# Altium footprint library IC.PCBLIB: 73 footprints (part 2 of 5)
Each footprint in its own frame and in the unit in brackets; x right, y up, seen from the top. Pads: shape width x height; smd on the part's side, far side on the other; paste and mask are expansions set on the pad; w line width, h text height; cw(c..) or ccw(c..) is an arc to the next point about the centre after c.
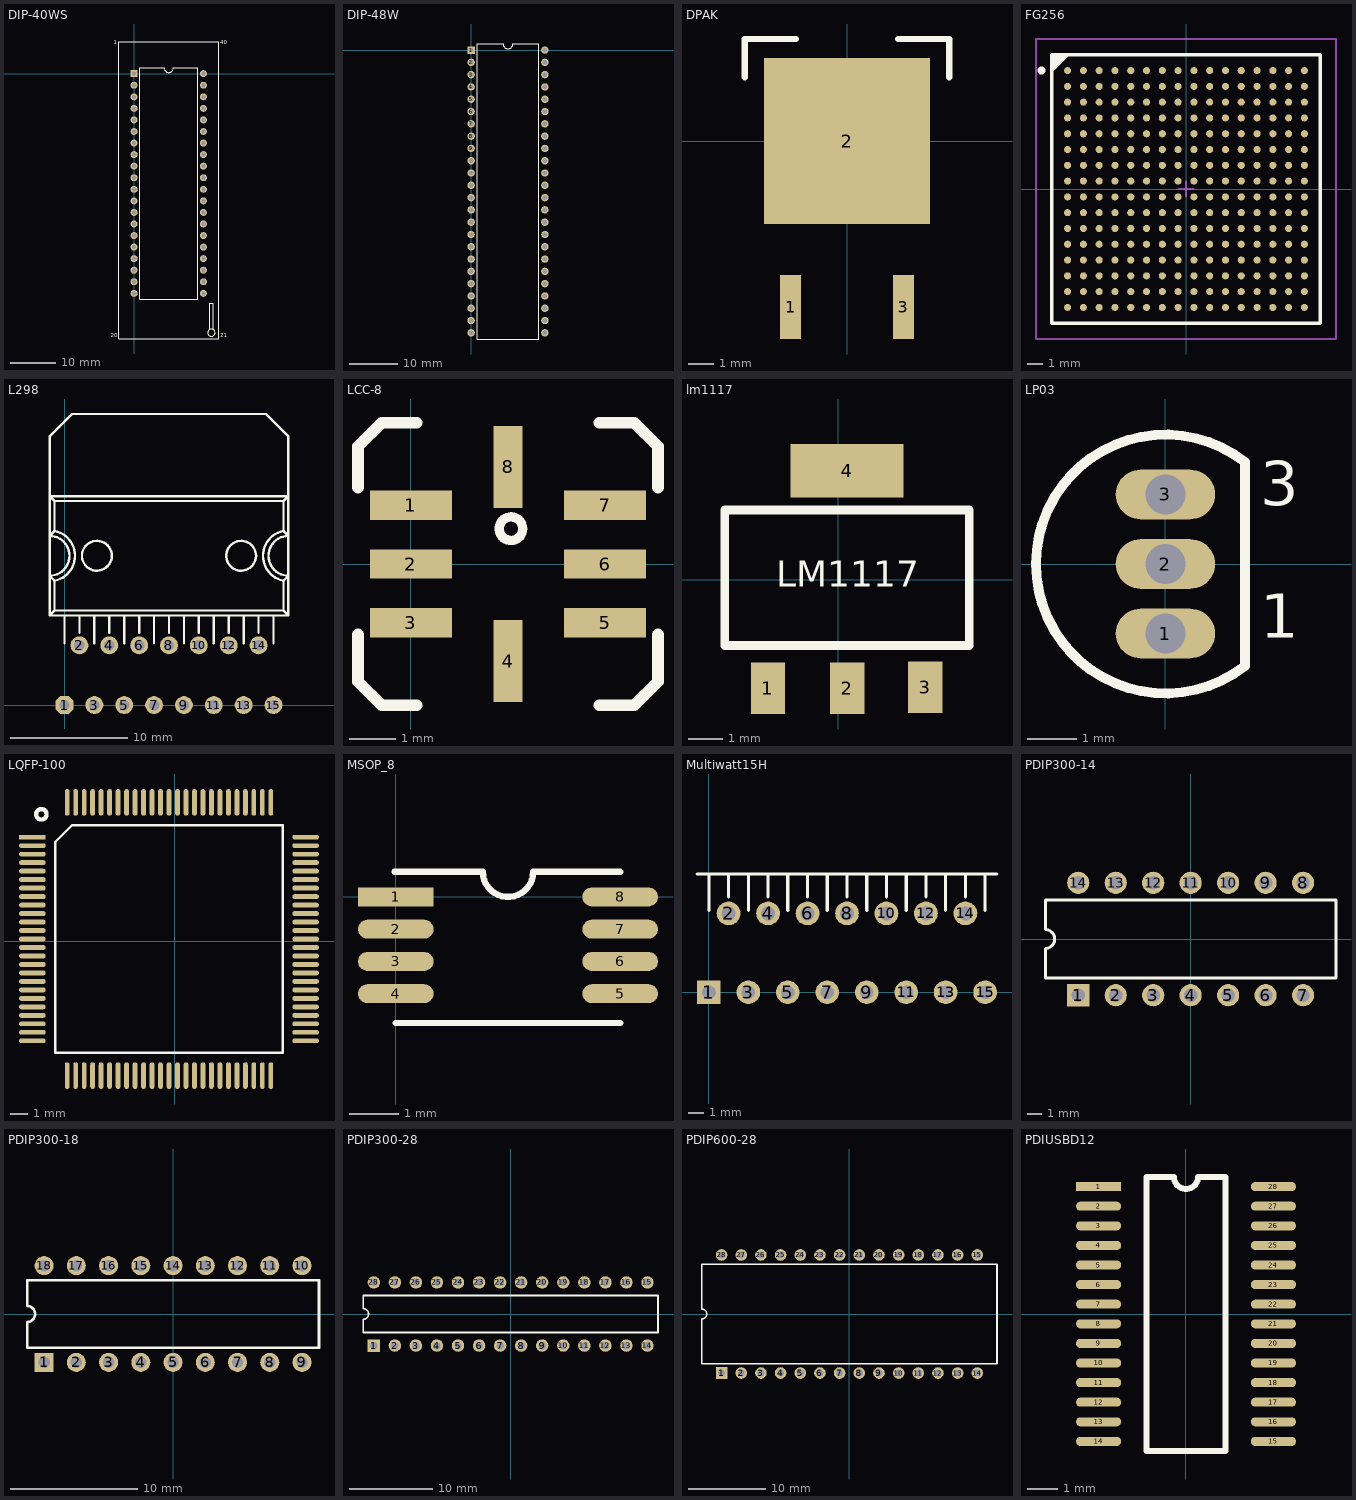
[diagram p1: the footprints below, top view; thin cyan lines are the x and y axes]

## DIP-40WS [mil]
pads (40):
  rect 60x60 hole 35.43: 1(0,0)
  round 60 hole 35.43: 2(0,-100) 3(0,-200) 4(0,-300) 5(0,-400) 6(0,-500) 8(0,-700) 9(0,-800) 10(0,-900) 11(0,-1000) 12(0,-1100) 13(0,-1200) 14(0,-1300) 15(0,-1400) 16(0,-1500) 17(0,-1600) 18(0,-1700) 19(0,-1800) 20(0,-1900) 21(600,-1900) 22(600,-1800) 23(600,-1700) 24(600,-1600) 25(600,-1500) 26(600,-1400) 27(600,-1300) 28(600,-1200) 29(600,-1100) 30(600,-1000) 31(600,-900) 32(600,-800) 33(600,-700) 34(600,-600) 35(600,-500) 36(600,-400) 37(600,-300) 38(600,-200) 39(600,-100) 40(600,0)
  round 60 hole 35.43 paste+0: 7(0,-600)
TopOverlay:
  circle w10: c669.38,-2240 r31.5
  lines w10: 655,-2210 655,-1985 683.77,-1985 683.77,-2210 ; -133.07,-2293.7 733.07,-2293.7 733.07,275.59 -133.07,275.59 -133.07,-2293.7 ; 50,-1950 50,50 260,50 ccw(c300,50) 340,50 550,50 550,-1950 50,-1950
  text "40" at 745,240 h60
  text "21" at 745,-2295 h60
  text "20" at -200,-2295 h60
  text "1" at -175,240 h60

## DIP-48W [mil]
pads (48):
  rect 60x60 hole 35: 1(0,0)
  round 60 hole 35: 2(0,-100) 3(0,-200) 4(0,-300) 5(0,-400) 6(0,-500) 7(0,-600) 8(0,-700) 9(0,-800) 10(0,-900) 11(0,-1000) 12(0,-1100) 13(0,-1200) 14(0,-1300) 15(0,-1400) 16(0,-1500) 17(0,-1600) 18(0,-1700) 19(0,-1800) 20(0,-1900) 21(0,-2000) 22(0,-2100) 23(0,-2200) 24(0,-2300) 25(600,-2300) 26(600,-2200) 27(600,-2100) 28(600,-2000) 29(600,-1900) 30(600,-1800) 31(600,-1700) 32(600,-1600) 33(600,-1500) 34(600,-1400) 35(600,-1300) 36(600,-1200) 37(600,-1100) 38(600,-1000) 39(600,-900) 40(600,-800) 41(600,-700) 42(600,-600) 43(600,-500) 44(600,-400) 45(600,-300) 46(600,-200) 47(600,-100) 48(600,0)
TopOverlay:
  lines w10: 50,-2350 50,50 260,50 ccw(c300,50) 340,50 550,50 550,-2350 50,-2350

## DPAK [mil]
pads (3):
  rect 33x100 smd: 1(-88.5,-260) 3(88.5,-260)
  rect 260x260 smd: 2(0,0)
TopOverlay:
  lines w10: -160,100 -160,160 -80,160 ; 80,160 160,160 160,100

## FG256 [mm] "BGA, 256-Leads, Body 17x17mm, Pitch 1mm"
height 1.97
pads (256):
  round 0.45 smd: A1(-7.5,7.5) A2(-6.5,7.5) A3(-5.5,7.5) A4(-4.5,7.5) A5(-3.5,7.5) A6(-2.5,7.5) A7(-1.5,7.5) A8(-0.5,7.5) A9(0.5,7.5) A10(1.5,7.5) A11(2.5,7.5) A12(3.5,7.5) A13(4.5,7.5) A14(5.5,7.5) A15(6.5,7.5) A16(7.5,7.5) B1(-7.5,6.5) B2(-6.5,6.5) B3(-5.5,6.5) B4(-4.5,6.5) B5(-3.5,6.5) B6(-2.5,6.5) B7(-1.5,6.5) B8(-0.5,6.5) B9(0.5,6.5) B10(1.5,6.5) B11(2.5,6.5) B12(3.5,6.5) B13(4.5,6.5) B14(5.5,6.5) B15(6.5,6.5) B16(7.5,6.5) C1(-7.5,5.5) C2(-6.5,5.5) C3(-5.5,5.5) C4(-4.5,5.5) C5(-3.5,5.5) C6(-2.5,5.5) C7(-1.5,5.5) C8(-0.5,5.5) C9(0.5,5.5) C10(1.5,5.5) C11(2.5,5.5) C12(3.5,5.5) C13(4.5,5.5) C14(5.5,5.5) C15(6.5,5.5) C16(7.5,5.5) D1(-7.5,4.5) D2(-6.5,4.5) D3(-5.5,4.5) D4(-4.5,4.5) D5(-3.5,4.5) D6(-2.5,4.5) D7(-1.5,4.5) D8(-0.5,4.5) D9(0.5,4.5) D10(1.5,4.5) D11(2.5,4.5) D12(3.5,4.5) D13(4.5,4.5) D14(5.5,4.5) D15(6.5,4.5) D16(7.5,4.5) E1(-7.5,3.5) E2(-6.5,3.5) E3(-5.5,3.5) E4(-4.5,3.5) E5(-3.5,3.5) E6(-2.5,3.5) E7(-1.5,3.5) E8(-0.5,3.5) E9(0.5,3.5) E10(1.5,3.5) E11(2.5,3.5) E12(3.5,3.5) E13(4.5,3.5) E14(5.5,3.5) E15(6.5,3.5) E16(7.5,3.5) F1(-7.5,2.5) F2(-6.5,2.5) F3(-5.5,2.5) F4(-4.5,2.5) F5(-3.5,2.5) F6(-2.5,2.5) F7(-1.5,2.5) F8(-0.5,2.5) F9(0.5,2.5) F10(1.5,2.5) F11(2.5,2.5) F12(3.5,2.5) F13(4.5,2.5) F14(5.5,2.5) F15(6.5,2.5) F16(7.5,2.5) G1(-7.5,1.5) G2(-6.5,1.5) G3(-5.5,1.5) G4(-4.5,1.5) G5(-3.5,1.5) G6(-2.5,1.5) G7(-1.5,1.5) G8(-0.5,1.5) G9(0.5,1.5) G10(1.5,1.5) G11(2.5,1.5) G12(3.5,1.5) G13(4.5,1.5) G14(5.5,1.5) G15(6.5,1.5) G16(7.5,1.5) H1(-7.5,0.5) H2(-6.5,0.5) H3(-5.5,0.5) H4(-4.5,0.5) H5(-3.5,0.5) H6(-2.5,0.5) H7(-1.5,0.5) H8(-0.5,0.5) H9(0.5,0.5) H10(1.5,0.5) H11(2.5,0.5) H12(3.5,0.5) H13(4.5,0.5) H14(5.5,0.5) H15(6.5,0.5) H16(7.5,0.5) J1(-7.5,-0.5) J2(-6.5,-0.5) J3(-5.5,-0.5) J4(-4.5,-0.5) J5(-3.5,-0.5) J6(-2.5,-0.5) J7(-1.5,-0.5) J8(-0.5,-0.5) J9(0.5,-0.5) J10(1.5,-0.5) J11(2.5,-0.5) J12(3.5,-0.5) J13(4.5,-0.5) J14(5.5,-0.5) J15(6.5,-0.5) J16(7.5,-0.5) K1(-7.5,-1.5) K2(-6.5,-1.5) K3(-5.5,-1.5) K4(-4.5,-1.5) K5(-3.5,-1.5) K6(-2.5,-1.5) K7(-1.5,-1.5) K8(-0.5,-1.5) K9(0.5,-1.5) K10(1.5,-1.5) K11(2.5,-1.5) K12(3.5,-1.5) K13(4.5,-1.5) K14(5.5,-1.5) K15(6.5,-1.5) K16(7.5,-1.5) L1(-7.5,-2.5) L2(-6.5,-2.5) L3(-5.5,-2.5) L4(-4.5,-2.5) L5(-3.5,-2.5) L6(-2.5,-2.5) L7(-1.5,-2.5) L8(-0.5,-2.5) L9(0.5,-2.5) L10(1.5,-2.5) L11(2.5,-2.5) L12(3.5,-2.5) L13(4.5,-2.5) L14(5.5,-2.5) L15(6.5,-2.5) L16(7.5,-2.5) M1(-7.5,-3.5) M2(-6.5,-3.5) M3(-5.5,-3.5) M4(-4.5,-3.5) M5(-3.5,-3.5) M6(-2.5,-3.5) M7(-1.5,-3.5) M8(-0.5,-3.5) M9(0.5,-3.5) M10(1.5,-3.5) M11(2.5,-3.5) M12(3.5,-3.5) M13(4.5,-3.5) M14(5.5,-3.5) M15(6.5,-3.5) M16(7.5,-3.5) N1(-7.5,-4.5) N2(-6.5,-4.5) N3(-5.5,-4.5) N4(-4.5,-4.5) N5(-3.5,-4.5) N6(-2.5,-4.5) N7(-1.5,-4.5) N8(-0.5,-4.5) N9(0.5,-4.5) N10(1.5,-4.5) N11(2.5,-4.5) N12(3.5,-4.5) N13(4.5,-4.5) N14(5.5,-4.5) N15(6.5,-4.5) N16(7.5,-4.5) P1(-7.5,-5.5) P2(-6.5,-5.5) P3(-5.5,-5.5) P4(-4.5,-5.5) P5(-3.5,-5.5) P6(-2.5,-5.5) P7(-1.5,-5.5) P8(-0.5,-5.5) P9(0.5,-5.5) P10(1.5,-5.5) P11(2.5,-5.5) P12(3.5,-5.5) P13(4.5,-5.5) P14(5.5,-5.5) P15(6.5,-5.5) P16(7.5,-5.5) R1(-7.5,-6.5) R2(-6.5,-6.5) R3(-5.5,-6.5) R4(-4.5,-6.5) R5(-3.5,-6.5) R6(-2.5,-6.5) R7(-1.5,-6.5) R8(-0.5,-6.5) R9(0.5,-6.5) R10(1.5,-6.5) R11(2.5,-6.5) R12(3.5,-6.5) R13(4.5,-6.5) R14(5.5,-6.5) R15(6.5,-6.5) R16(7.5,-6.5) T1(-7.5,-7.5) T2(-6.5,-7.5) T3(-5.5,-7.5) T4(-4.5,-7.5) T5(-3.5,-7.5) T6(-2.5,-7.5) T7(-1.5,-7.5) T8(-0.5,-7.5) T9(0.5,-7.5) T10(1.5,-7.5) T11(2.5,-7.5) T12(3.5,-7.5) T13(4.5,-7.5) T14(5.5,-7.5) T15(6.5,-7.5) T16(7.5,-7.5)
TopOverlay:
  circle w0.25: c-9.15,7.5 r0.125
  region: -7.5,8.5 -8.5,7.5 -8.5,8.5
  lines w0.2: -8.5,7.5 -7.5,8.5 ; -8.5,-8.5 -8.5,8.5 8.5,8.5 8.5,-8.5 -8.5,-8.5
Mechanical13:
  lines w0.1: -8.5,-8.5 -8.5,8.5 8.5,8.5 8.5,-8.5 -8.5,-8.5
Mechanical15:
  lines w0.1: -0.5,0 0.5,0 ; 0,-0.5 0,0.5 ; -9.5,-9.5 -9.5,9.5 9.5,9.5 9.5,-9.5 -9.5,-9.5
3D body: height 1.97, standoff 0, extent -8.5,-8.5 8.5,8.5

## L298 [mil] "L298"
height 10
pads (15):
  oct 60x60 hole 35: 1(0,0)
  round 60 hole 35: 2(50,200) 3(100,0) 4(150,200) 5(200,0) 6(250,200) 7(300,0) 8(350,200) 9(400,0) 10(450,200) 11(500,0) 12(550,200) 13(600,0) 14(650,200) 15(700,0)
TopOverlay:
  circle w8: c591.67,500 r50
  circle w8: c108.33,500 r50
  lines w7.87: -50,433.33 -33.33,416.67 -33.33,316.67 ; -50,566.67 -33.33,583.33 -33.33,683.33 ; 0,207.48 0,300 ; 50,241.67 50,300 ; 100,207.48 100,300 ; 150,241.67 150,300 ; 200,207.48 200,300 ; 250,241.67 250,300 ; 300,207.48 300,300 ; 350,241.67 350,300 ; 400,207.48 400,300 ; 450,241.67 450,300 ; 500,207.48 500,300 ; 550,241.67 550,300 ; 600,207.48 600,300 ; 650,241.67 650,300 ; 700,207.48 700,300 ; 750,433.33 733.33,416.67 733.33,316.67 ; 750,566.67 733.33,583.33 733.33,683.33 ; -50,300 -33.33,316.67 ; -50,300 750,300 ; -50,300 -50,700 ; -50,700 -33.33,683.33 ; -50,700 750,700 ; -50,700 -50,900 25,975 675,975 750,900 750,700 ; -33.33,316.67 733.33,316.67 ; -33.33,683.33 733.33,683.33 ; 733.33,316.67 750,300 ; 733.33,683.33 750,700 ; 750,300 750,700
  lines w8: -50,433.33 ccw(c-50,500) -50,566.67 ; -33.78,416.56 ccw(c-50,500) -33.78,583.44 ; 733.78,416.56 cw(c750,500) 733.78,583.44 ; 750,433.33 cw(c750,500) 750,566.67

## LCC-8 [mil]
pads (8):
  rect 70x25 smd: 1(0,50) 2(0,0) 3(0,-50) 5(165,-50) 6(165,0) 7(165,50)
  rect 25x70 smd: 4(82.5,-82.5) 8(82.5,82.5)
TopOverlay:
  circle w8: c85,30 r10
  lines w10: -45,-60 -45,-100 -25,-120 5,-120 ; -45,65 -45,100 -25,120 5,120 ; 160,-120 190,-120 210,-100 210,-60 ; 160,120 190,120 210,100 210,65

## lm1117 [mm]
pads (4):
  rect 1x1.5 smd: 1(-2.043,-3.148) 2(0.256,-3.148) 3(2.53,-3.123)
  rect 3.3x1.549 smd: 4(0.254,3.175)
TopOverlay:
  lines w0.254: -3.302,-1.905 3.81,-1.905 3.81,2.032 -3.302,2.032 -3.302,-1.905
  text "LM1117" at -1.8,-0.2 h0.76

## LP03 [mm] "TO, Flat Index; 3 In-Line, Axial Leads; Body Dia. 4.8mm; Leads 0.56 x 0.41 mm (max)"
height 5.34
pads (3):
  oval 2x1 hole 0.8: 1(0,-1.397) 2(0,0) 3(0,1.397)
TopOverlay:
  lines w0.2: 1.601,-2.049 cw(c0,0) 1.601,2.049 ; 1.6,-1.99 1.6,1.99
  text "3" at 1.905,0.889 h1.52
  text "1" at 1.905,-1.778 h1.52

## LQFP-100 [mil]
pads (100):
  rect 62x11.02 smd: 1(-330,241)
  oval 62x11.02 smd: 2(-330,221.31) 3(-330,201.63) 4(-330,181.94) 5(-330,162.26) 6(-330,142.57) 7(-330,122.89) 8(-330,103.2) 9(-330,83.52) 10(-330,63.84) 11(-330,44.15) 12(-330,24.46) 13(-330,4.78) 14(-330,-14.9) 15(-330,-34.59) 16(-330,-54.27) 17(-330,-73.96) 18(-330,-93.64) 19(-330,-113.33) 20(-330,-133.01) 21(-330,-152.7) 22(-330,-172.38) 23(-330,-192.07) 24(-330,-211.75) 25(-330,-231.44) 51(303.87,-231.44) 52(303.87,-211.75) 53(303.87,-192.07) 54(303.87,-172.38) 55(303.87,-152.7) 56(303.87,-133.01) 57(303.87,-113.33) 58(303.87,-93.64) 59(303.87,-73.96) 60(303.87,-54.27) 61(303.87,-34.59) 62(303.87,-14.9) 63(303.87,4.78) 64(303.87,24.46) 65(303.87,44.15) 66(303.87,63.84) 67(303.87,83.52) 68(303.87,103.2) 69(303.87,122.89) 70(303.87,142.57) 71(303.87,162.26) 72(303.87,181.94) 73(303.87,201.63) 74(303.87,221.31) 75(303.87,241)
  oval 11.02x62 smd: 26(-249.28,-312.16) 27(-229.6,-312.16) 28(-209.91,-312.16) 29(-190.23,-312.16) 30(-170.54,-312.16) 31(-150.86,-312.16) 32(-131.17,-312.16) 33(-111.49,-312.16) 34(-91.8,-312.16) 35(-72.12,-312.16) 36(-52.43,-312.16) 37(-32.75,-312.16) 38(-13.06,-312.16) 39(6.62,-312.16) 40(26.31,-312.16) 41(45.99,-312.16) 42(65.68,-312.16) 43(85.36,-312.16) 44(105.05,-312.16) 45(124.73,-312.16) 46(144.42,-312.16) 47(164.1,-312.16) 48(183.79,-312.16) 49(203.47,-312.16) 50(223.16,-312.16) 76(223.16,321.72) 77(203.47,321.72) 78(183.79,321.72) 79(164.1,321.72) 80(144.42,321.72) 81(124.73,321.72) 82(105.05,321.72) 83(85.36,321.72) 84(65.68,321.72) 85(45.99,321.72) 86(26.31,321.72) 87(6.62,321.72) 88(-13.06,321.72) 89(-32.75,321.72) 90(-52.43,321.72) 91(-72.12,321.72) 92(-91.8,321.72) 93(-111.49,321.72) 94(-131.17,321.72) 95(-150.86,321.72) 96(-170.54,321.72) 97(-190.23,321.72) 98(-209.91,321.72) 99(-229.6,321.72) 100(-249.28,321.72)
TopOverlay:
  circle w10: c-309.17,294 r12.16
  lines w5.91: -277.24,-259.39 -277.24,229.19 -237.47,268.95 251.11,268.95 251.11,-259.39 -277.24,-259.39

## MSOP_8 [mil]
pads (8):
  rect 60x15 smd: 1(0,0)
  oval 60x15 smd: 2(0,-25.59) 3(0,-51.18) 4(0,-76.77) 5(178,-76.77) 6(178,-51.18) 7(178,-25.59) 8(178,0)
TopOverlay:
  lines w5: -1,20 69,20 ccw(c89,20) 109,20 ; 0,-100 178,-100 ; 110,20 178,20

## Multiwatt15H [mil] "L298"
pads (15):
  rect 60x60 hole 35: 1(0,0)
  round 60 hole 35: 2(50,200) 3(100,0) 4(150,200) 5(200,0) 6(250,200) 7(300,0) 8(350,200) 9(400,0) 10(450,200) 11(500,0) 12(550,200) 13(600,0) 14(650,200) 15(700,0)
TopOverlay:
  lines w7.87: -30,300 730,300 ; 0,207.48 0,300 ; 50,241.67 50,300 ; 100,207.48 100,300 ; 150,241.67 150,300 ; 200,207.48 200,300 ; 250,241.67 250,300 ; 300,207.48 300,300 ; 350,241.67 350,300 ; 400,207.48 400,300 ; 450,241.67 450,300 ; 500,207.48 500,300 ; 550,241.67 550,300 ; 600,207.48 600,300 ; 650,241.67 650,300 ; 700,207.48 700,300

## PDIP300-14 [mm] "DIP, Plastic; 14 Leads; Row Spacing 7.62 mm; Pitch 2.54 mm"
height 4.32
pads (14):
  rect 1.5x1.5 hole 0.9: 1(-7.62,-3.81)
  round 1.5 hole 0.9: 2(-5.08,-3.81) 3(-2.54,-3.81) 4(0,-3.81) 5(2.54,-3.81) 6(5.08,-3.81) 7(7.62,-3.81) 8(7.62,3.81) 9(5.08,3.81) 10(2.54,3.81) 11(0,3.81) 12(-2.54,3.81) 13(-5.08,3.81) 14(-7.62,3.81)
TopOverlay:
  lines w0.2: -9.85,-2.65 9.85,-2.65 9.85,2.65 -9.85,2.65 -9.85,0.635 cw(c-9.85,0) -9.85,-0.635 -9.85,-2.65

## PDIP300-18 [mm] "DIP, Plastic; 18 Leads; Row Spacing 7.62 mm; Pitch 2.54 mm"
height 4.32
pads (18):
  rect 1.5x1.5 hole 0.9: 1(-10.16,-3.81)
  round 1.5 hole 0.9: 2(-7.62,-3.81) 3(-5.08,-3.81) 4(-2.54,-3.81) 5(0,-3.81) 6(2.54,-3.81) 7(5.08,-3.81) 8(7.62,-3.81) 9(10.16,-3.81) 10(10.16,3.81) 11(7.62,3.81) 12(5.08,3.81) 13(2.54,3.81) 14(0,3.81) 15(-2.54,3.81) 16(-5.08,3.81) 17(-7.62,3.81) 18(-10.16,3.81)
TopOverlay:
  lines w0.2: -11.5,-2.65 -11.5,-0.635 ccw(c-11.5,0) -11.5,0.635 -11.5,2.65 11.5,2.65 11.5,-2.65 -11.5,-2.65

## PDIP300-28 [mm] "DIP, Plastic, Skinny; 28 Leads; Row Spacing 7.62 mm; Pitch 2.54 mm"
height 4.07
pads (28):
  rect 1.5x1.5 hole 0.9: 1(-16.51,-3.81)
  round 1.5 hole 0.9: 2(-13.97,-3.81) 3(-11.43,-3.81) 4(-8.89,-3.81) 5(-6.35,-3.81) 6(-3.81,-3.81) 7(-1.27,-3.81) 8(1.27,-3.81) 9(3.81,-3.81) 10(6.35,-3.81) 11(8.89,-3.81) 12(11.43,-3.81) 13(13.97,-3.81) 14(16.51,-3.81) 15(16.51,3.81) 16(13.97,3.81) 17(11.43,3.81) 18(8.89,3.81) 19(6.35,3.81) 20(3.81,3.81) 21(1.27,3.81) 22(-1.27,3.81) 23(-3.81,3.81) 24(-6.35,3.81) 25(-8.89,3.81) 26(-11.43,3.81) 27(-13.97,3.81) 28(-16.51,3.81)
TopOverlay:
  lines w0.2: -17.78,-2.225 17.78,-2.225 17.78,2.225 -17.78,2.225 -17.78,0.635 cw(c-17.78,0) -17.78,-0.635 -17.78,-2.225

## PDIP600-28 [mm] "DIP, Plastic; 28 Leads; Row Spacing 15.24 mm; Pitch 2.54 mm"
height 4.83
pads (28):
  rect 1.5x1.5 hole 0.9: 1(-16.51,-7.62)
  round 1.5 hole 0.9: 2(-13.97,-7.62) 3(-11.43,-7.62) 4(-8.89,-7.62) 5(-6.35,-7.62) 6(-3.81,-7.62) 7(-1.27,-7.62) 8(1.27,-7.62) 9(3.81,-7.62) 10(6.35,-7.62) 11(8.89,-7.62) 12(11.43,-7.62) 13(13.97,-7.62) 14(16.51,-7.62) 15(16.51,7.62) 16(13.97,7.62) 17(11.43,7.62) 18(8.89,7.62) 19(6.35,7.62) 20(3.81,7.62) 21(1.27,7.62) 22(-1.27,7.62) 23(-3.81,7.62) 24(-6.35,7.62) 25(-8.89,7.62) 26(-11.43,7.62) 27(-13.97,7.62) 28(-16.51,7.62)
TopOverlay:
  lines w0.2: -19.05,-6.45 19.05,-6.45 19.05,6.45 -19.05,6.45 -19.05,0.635 cw(c-19.05,0) -19.05,-0.635 -19.05,-6.45

## PDIUSBD12 [mm]
pads (28):
  rect 1.5x0.3 smd: 1(-2.9,4.225)
  oval 1.5x0.3 smd: 2(-2.9,3.575) 3(-2.9,2.925) 4(-2.9,2.275) 5(-2.9,1.625) 6(-2.9,0.975) 7(-2.9,0.325) 8(-2.9,-0.325) 9(-2.9,-0.975) 10(-2.9,-1.625) 11(-2.9,-2.275) 12(-2.9,-2.925) 13(-2.9,-3.575) 14(-2.9,-4.225) 15(2.9,-4.225) 16(2.9,-3.575) 17(2.9,-2.925) 18(2.9,-2.275) 19(2.9,-1.625) 20(2.9,-0.975) 21(2.9,-0.325) 22(2.9,0.325) 23(2.9,0.975) 24(2.9,1.625) 25(2.9,2.275) 26(2.9,2.925) 27(2.9,3.575) 28(2.9,4.225)
TopOverlay:
  lines w0.198: -0.403,4.55 ccw(c0,4.55) 0.403,4.55
  lines w0.2: -0.403,4.55 -1.315,4.55 -1.315,-4.55 1.315,-4.55 1.315,4.55 0.402,4.55